# EAGLE library part KX220-1072 (library SamacSys_Parts)
MEMS ACCELEROMETERS, 40G; MEMS Sensor Output:Analogue; Measurement Axis:X, Y, Z; Acceleration Range:+/- 40g; Supply Voltage Min:1.8V; Supply Voltage Max:3.6V; Sensor Case Style:LGA; No. of Pins:10Pins; Sensitivity Typ:30mV/g; RoHS Compliant: Yes Source: Datasheet <https://componentsearchengine.com/Datasheets/1/KX220-1072.pdf>
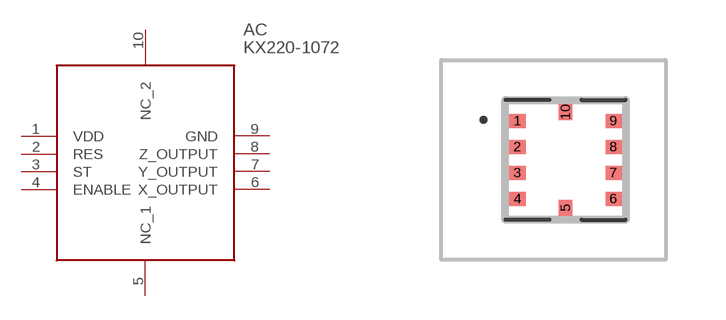
[diagram p0: symbol with the pads of KX2201072; footprint KX2201072]

Designator prefix AC

## KX220-1072 (DESCRIPTION: MEMS ACCELEROMETERS, 40G; MEMS Sensor Output:Analogue; Measurement Axis:X, Y, Z; Acceleration Range:+/- 40g; Supply Voltage Min:1.8V; Supply Voltage Max:3.6V; Sensor Case Style:LGA; No. of Pins:10Pins; Sensitivity Typ:30mV/g; RoHS Compliant: Yes; HEIGHT: 1.01mm; MANUFACTURER_NAME: Kionix; MANUFACTURER_PART_NUMBER: KX220-1072; MOUSER_PART_NUMBER: 912-KX220-1072; MOUSER_PRICE-STOCK: https://www.mouser.co.uk/ProductDetail/Kionix/KX220-1072?qs=W0yvOO0ixfHJG%2FXzR0NLpg%3D%3D)  [KX2201072]
1  VDD
2  RES
3  ST
4  ENABLE
5  NC_1
6  X_OUTPUT
7  Y_OUTPUT
8  Z_OUTPUT
9  GND
10  NC_2

## Footprint KX2201072 (pad centres in mm)
KX220-1072-2
smd 0.4 x 0.35: 1 -1.2,0.975; 2 -1.2,0.325; 3 -1.2,-0.325; 4 -1.2,-0.975; 6 1.2,-0.975; 7 1.2,-0.325; 8 1.2,0.325; 9 1.2,0.975
smd 0.35 x 0.4: 5 0,-1.2; 10 0,1.2